# EAGLE library part IC_LTC4053-4.2 (library akita)
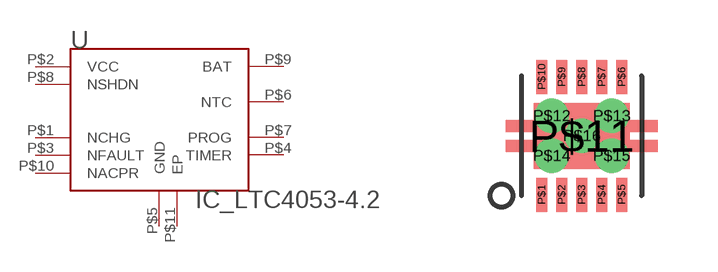
[diagram p129: symbol with the pads of DFN10E; footprint DFN10E]

Designator prefix U

## IC_LTC4053-4.2DD  [DFN10E]
P$1  NCHG
P$2  VCC
P$3  NFAULT
P$4  TIMER
P$5  GND
P$6  NTC
P$7  PROG
P$8  NSHDN
P$9  BAT
P$10  NACPR
P$11  EP

## Footprint DFN10E (pad centres in mm)
DFN10, 3x3mm, 0.5mm, with EPAD
smd 0.28 x 0.85: P$1 -1,-1.475; P$2 -0.5,-1.475; P$3 0,-1.475; P$4 0.5,-1.475; P$5 1,-1.475; P$6 1,1.475; P$7 0.5,1.475; P$8 0,1.475; P$9 -0.5,1.475; P$10 -1,1.475
smd 2.4 x 1.65: P$11 0,0
drill 0.35 pad 0.5: P$12 -0.75,0.5; P$13 0.75,0.5; P$14 -0.75,-0.5; P$15 0.75,-0.5; P$16 0,0